# EAGLE library part SN75240P (library gobabygo_motorcontroller)
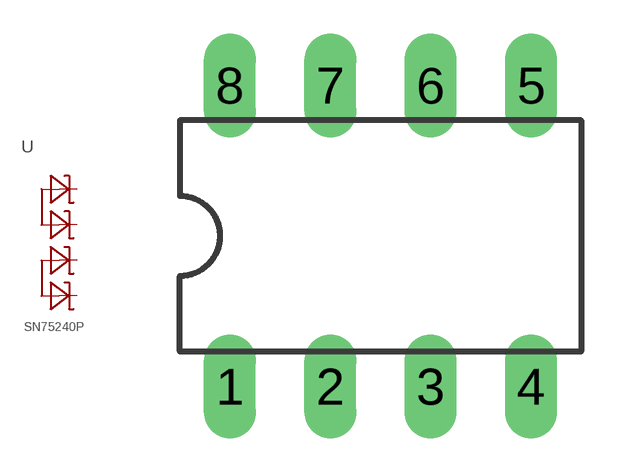
[diagram p0: symbol with the pads of DIL08; footprint DIL08]

Designator prefix -

## SN75240P  [DIL08]
1  A4  pas
2  C4  pas
3  A3  pas
4  C3  pas
5  A2  pas
6  C2  pas
7  A1  pas
8  C1  pas

## Footprint DIL08 (pad centres in mm)
Dual In Line Package
drill 0.813 long: 1 -3.81,-3.81; 2 -1.27,-3.81; 3 1.27,-3.81; 4 3.81,-3.81; 5 3.81,3.81; 6 1.27,3.81; 7 -1.27,3.81; 8 -3.81,3.81